# Altium footprint library Resistor_updated.PcbLib: 18 footprints (part 2 of 2)
Each footprint in its own frame and in the unit in brackets; x right, y up, seen from the top. Pads: shape width x height; smd on the part's side, far side on the other; paste and mask are expansions set on the pad; w line width, h text height; cw(c..) or ccw(c..) is an arc to the next point about the centre after c.
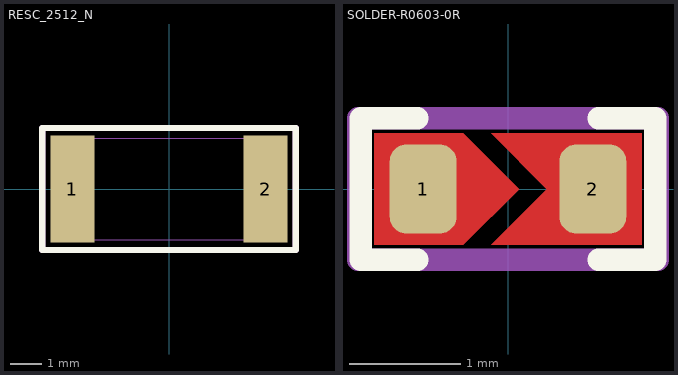
[diagram p1: the footprints below, top view; thin cyan lines are the x and y axes]

## RESC_2512_N [mm]
pads (2):
  rrect1% 1.38x3.37 smd: 1(-3.045,0) 2(3.045,0)
Top Overlay:
  lines w0.2: -4,-1.925 -4,1.925 4,1.925 4,-1.925 -4,-1.925
Mechanical 12:
  lines w0.025: -3.15,-1.6 3.15,-1.6 ; -3.15,-1.6 -3.15,1.6 ; -3.15,-1.6 -3.15,1.6 ; -3.15,-1.6 -2.55,-1.6 -2.55,1.6 -3.15,1.6 ; -3.15,1.6 3.15,1.6 ; 3.15,-1.6 3.15,1.6 ; 3.15,-1.6 2.55,-1.6 2.55,1.6 3.15,1.6 ; 3.15,-1.6 3.15,1.6
Mechanical 13:
  lines w0.2: -4,-1.925 -4,1.925 4,1.925 4,-1.925 -4,-1.925
  text ".Designator" at -3.25,-0.15 h1
3D body "RESC630X320X71L60.STEP": height 0.71, standoff 0, extent -3.15,-1.6 3.15,1.6

## SOLDER-R0603-0R [mm]
height 0.5
pads (2):
  rrect50% 0.6x0.8 smd: 1(-0.762,0) 2(0.762,0)
Top Layer:
  region: -1.2,-0.5 -1.2,0.5 -0.4,0.5 0.1,0 -0.4,-0.5
  region: -0.15,0.5 0.35,0 -0.15,-0.5 1.2,-0.5 1.2,0.5
Top Overlay:
  lines w0.2: -0.813,-0.635 -1.321,-0.635 -1.321,0.635 -0.813,0.635 ; 0.813,-0.635 1.321,-0.635 1.321,0.635 0.813,0.635
Top Solder:
  region: -0.95,0.55 0.95,0.55 0.95,-0.55 -0.95,-0.55
Mechanical 13:
  lines w0.2: -1.346,-0.635 1.346,-0.635 1.346,0.635 -1.346,0.635 -1.346,-0.635
  text ".Designator" at -1.168,-0.279 h1
3D body: height 0.5, standoff 0, extent -0.905,-0.505 0.905,0.505